# Altium footprint library rcl.PCBLIB: 487 footprints (part 19 of 31)
Each footprint in its own frame and in the unit in brackets; x right, y up, seen from the top. Pads: shape width x height; smd on the part's side, far side on the other; paste and mask are expansions set on the pad; w line width, h text height; cw(c..) or ccw(c..) is an arc to the next point about the centre after c.
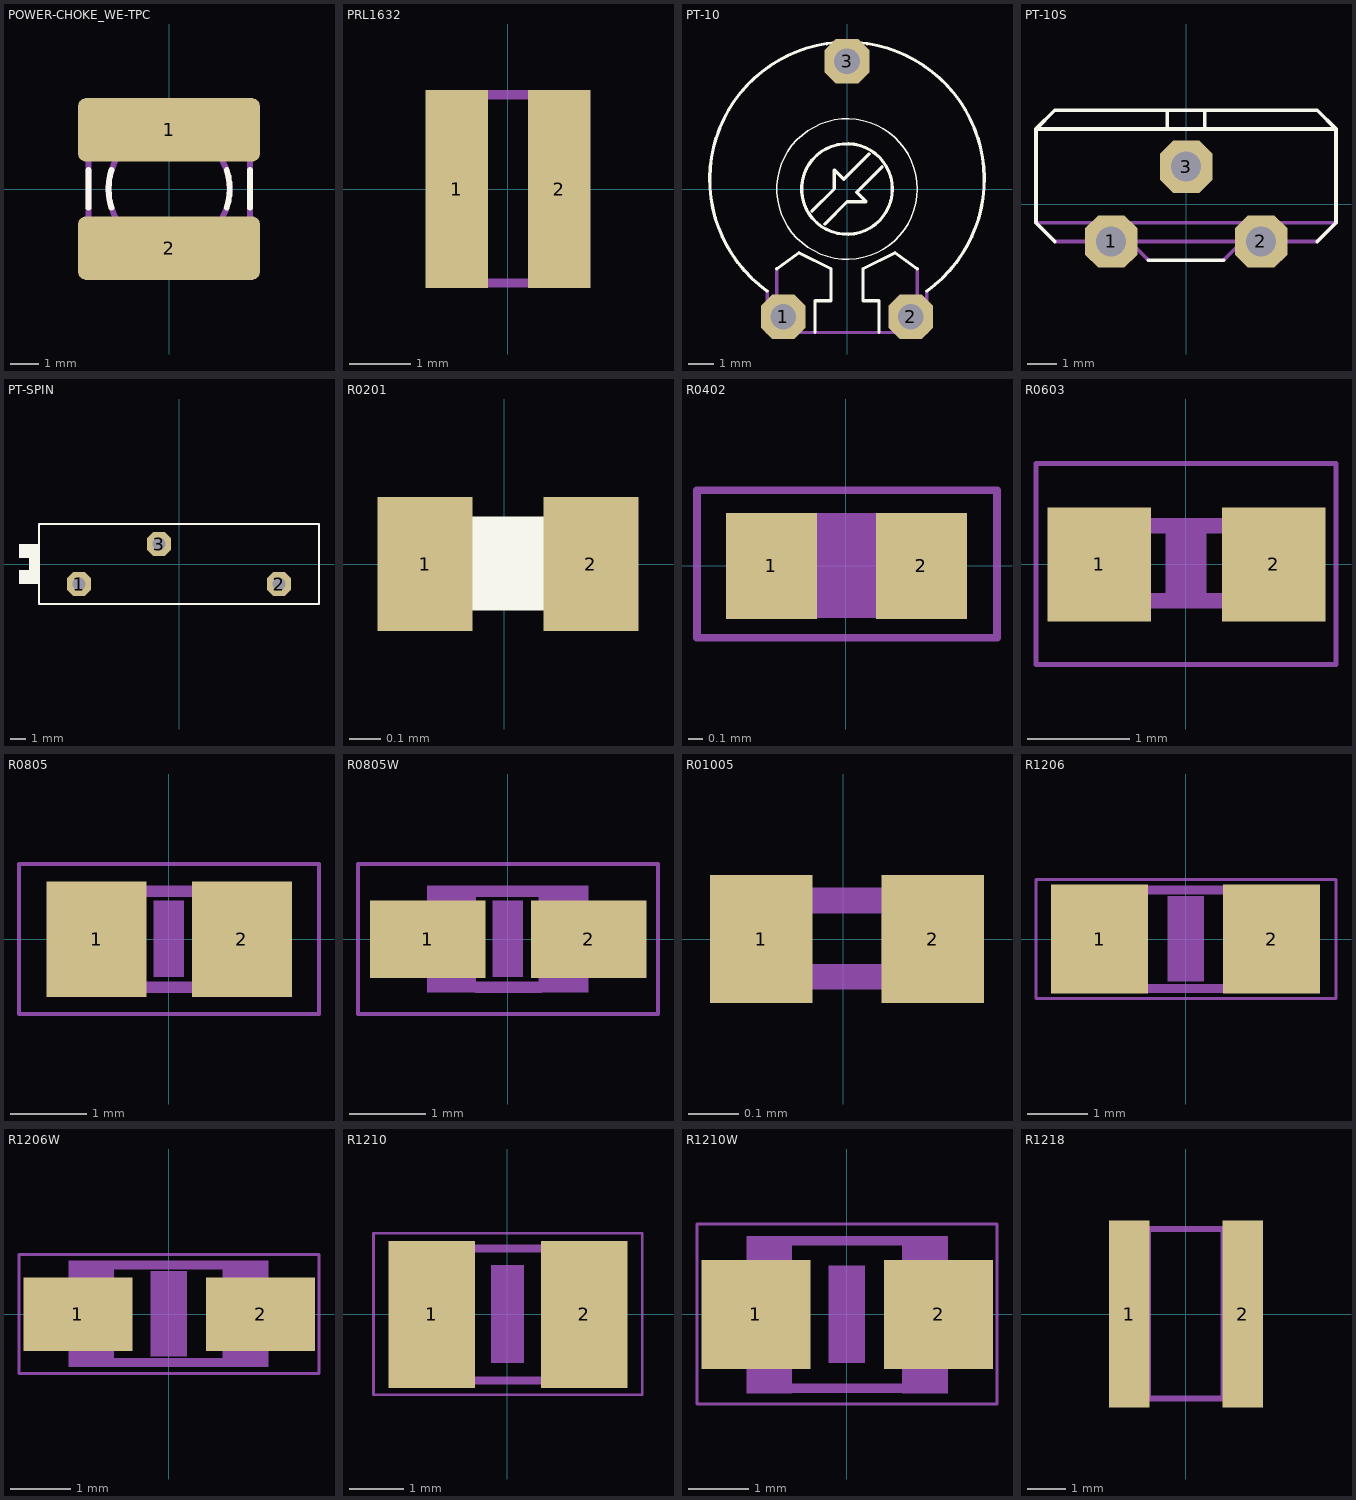
[diagram p18: the footprints below, top view; thin cyan lines are the x and y axes]

## POWER-CHOKE_WE-TPC [mil]
pads (2):
  rrect25% 249x87 smd: 1(0,81) 2(0,-80.71)
Top Overlay:
  lines w8: -110.24,-25.59 -110.24,26 ; -78.74,-25.59 cw(c0.63,0.2) -78.74,26 ; 79,-25.59 ccw(c-0.37,0.2) 79,26 ; 111,-25.59 111,26
Mechanical 16:
  circle w8: c0,0 r83
  lines w8: -110.24,-90.55 ccw(c-90.55,-90.55) -90.55,-110.24 91,-110.24 ccw(c91.16,-90.39) 111,-90.55 111,91 ccw(c91,91) 91,111 -90.55,111 ccw(c-90.39,91.16) -110.24,91 -110.24,-90.55

## PRL1632 [mil]
pads (2):
  rect 40x126 smd: 1(-32.36,0) 2(33,0)
Mechanical 16:
  rectangle: -31.5,-62.99 -15.75,63
  rectangle: 16,-62.99 32,63
  lines w6: -28.65,-59.95 29,-59.95 ; -28.16,60 29,60

## PT-10 [mil]
pads (3):
  oct 70x70 hole 40: 1(-100,-200) 2(100,-200) 3(0,200)
Top Overlay:
  circle w5: c0,0 r71
  circle w2: c0,0 r110
  lines w5: -125,-160 cw(c0,15) 125,-160 ; -110,-125 -75,-100 -25,-125 -25,-175 -50,-175 -50,-225 ; -55,-35 -20,0 -20,30 -5,15 35,55 ; -35,-55 0,-20 30,-20 15,-5 55,35 ; 50,-225 50,-175 25,-175 25,-125 75,-100 110,-125
Mechanical 16:
  lines w5: -125,-160 -125,-225 125,-225 125,-160 ; -110,-225 -110,-125 ; 110,-225 110,-125

## PT-10S [mil]
pads (3):
  oct 70x70 hole 40: 1(-100,-50) 2(100,-50) 3(0,50)
Top Overlay:
  lines w5: -175,-50 -200,-25 -200,100 ; -50,-75 50,-75 ; -25,100 -25,125 ; 25,100 25,125 ; 175,-50 200,-25 200,100 ; -200,100 -175,125 175,125 200,100 ; -200,100 200,100
Mechanical 16:
  lines w5: -200,-25 200,-25 ; -175,-50 175,-50 ; -75,-50 -50,-75 ; 50,-75 75,-50

## PT-SPIN [mil]
pads (3):
  oct 60x60 hole 32: 1(-250,-50) 2(250,-50) 3(-50,50)
Top Overlay:
  rectangle: -375,-50 -350,50
  rectangle: -400,15 -375,50
  rectangle: -400,-50 -375,-15
  lines w5: -350,-100 350,-100 350,100 -350,100 -350,-100

## R0201 [mil]
pads (2):
  rect 12x17 smd: 1(-10.04,0) 2(11,0)
Top Overlay:
  rectangle: -5.91,-5.91 6,6
Mechanical 16:
  rectangle: -11.81,-5.91 -5.91,6
  rectangle: 6,-5.91 12,6

## R0402 [mil]
pads (2):
  rect 24x28 smd: 1(-19.68,0) 2(20,0)
Mechanical 6:
  rectangle: -7.87,-13.78 8,14
Mechanical 16:
  rectangle: -21.81,-12 -10,12
  rectangle: 11,-12 22,12
  lines w6: -9.65,-8.82 10,-8.82 ; -9.65,9 10,9
Mechanical 27:
  lines w2: -39.37,-19.02 40,-19.02 40,20 -39.37,20 -39.37,-19.02

## R0603 [mil]
pads (2):
  rect 40x44 smd: 1(-33.46,0) 2(34,0)
Mechanical 6:
  rectangle: -7.87,-15.75 8,16
Mechanical 16:
  rectangle: 17,-17 33,17
  rectangle: -33,-17 -17,17
  lines w6: -17.01,-14.02 18,-14.02 ; -17.01,15 18,15
Mechanical 27:
  lines w2: -57.99,-38.7 58,-38.7 58,39 -57.99,39 -57.99,-38.7

## R0805 [mil]
pads (2):
  rect 52x60 smd: 1(-37.4,0) 2(38,0)
Mechanical 6:
  rectangle: -7.87,-19.69 8,20
Mechanical 16:
  rectangle: 16,-27.5 42,28
  rectangle: -42,-27.5 -16.41,28
  lines w6: -16.14,-25 17,-25 ; -16.14,25 17,25
Mechanical 27:
  lines w2: -77.68,-38.7 78,-38.7 78,39 -77.68,39 -77.68,-38.7

## R0805W [mil]
pads (2):
  rect 60x40 smd: 1(-41.44,0) 2(42,0)
Mechanical 6:
  rectangle: -7.87,-19.69 8,20
Mechanical 16:
  rectangle: 16,-27.5 42,28
  rectangle: -42,-27.5 -16.41,28
  lines w6: -16.14,-25 17,-25 ; -16.14,25 17,25
Mechanical 27:
  lines w2: -77.68,-38.7 78,-38.7 78,39 -77.68,39 -77.68,-38.7

## R01005 [mil]
pads (2):
  rect 8x10 smd: 1(-6.4,0) 2(7,0)
Mechanical 16:
  rectangle: -7.87,-3.94 -2.95,4
  rectangle: 3,-3.94 8,4
  rectangle: -5.91,2 6,4
  rectangle: -5.91,-3.94 6,-1.97

## R1206 [mil]
pads (2):
  rect 63x71 smd: 1(-55.98,0) 2(56,0)
Mechanical 6:
  rectangle: -11.81,-27.56 12,28
Mechanical 16:
  rectangle: -66.5,-34.5 -37.5,35
  rectangle: 38,-34.5 67,35
  lines w6: -38,-32 38,-32 ; -38,32 38,32
Mechanical 27:
  lines w2: -97.36,-38.7 98,-38.7 98,39 -97.36,39 -97.36,-38.7

## R1206W [mil]
pads (2):
  rect 71x48 smd: 1(-59.02,0) 2(60,0)
Mechanical 6:
  rectangle: -11.81,-27.56 12,28
Mechanical 16:
  rectangle: -65,-34.5 -35.47,35
  rectangle: 35,-34.5 65,35
  lines w6: -35.94,-31.5 35,-31.5 ; -35.94,32 35,32
Mechanical 27:
  lines w2: -97.36,-38.7 98,-38.7 98,39 -97.36,39 -97.36,-38.7

## R1210 [mil]
pads (2):
  rect 63x107 smd: 1(-55.12,0) 2(56,0)
Mechanical 6:
  rectangle: -11.81,-35.43 12,36
Mechanical 16:
  rectangle: -65,-51.5 -35.47,51
  rectangle: 36,-51.5 66,51
  lines w6: -35.94,-47.99 37,-47.99 ; -35.94,48 37,48
Mechanical 27:
  lines w2: -97.36,-58.39 98,-58.39 98,59 -97.36,59 -97.36,-58.39

## R1210W [mil]
pads (2):
  rect 71x71 smd: 1(-59.02,0) 2(60,0)
Mechanical 6:
  rectangle: -11.81,-31.5 12,32
Mechanical 16:
  rectangle: -65,-51.5 -35.47,51
  rectangle: 36,-51.5 66,51
  lines w6: -35.94,-47.99 37,-47.99 ; -35.94,48 37,48
Mechanical 27:
  lines w2: -97.36,-58.39 98,-58.39 98,59 -97.36,59 -97.36,-58.39

## R1218 [mil]
pads (2):
  rect 42x193 smd: 1(-58.07,0) 2(59,0)
Mechanical 16:
  rectangle: -65,-90.55 -35.47,91
  rectangle: 36,-90.55 66,91
  lines w6: -36.97,88 36,88 ; -35.94,-87.36 37,-87.36